# Altium schematic symbol library AG.Misc.SchLib: 3 symbols
Pins are listed as number, name and electrical type; pins without a type are passive.

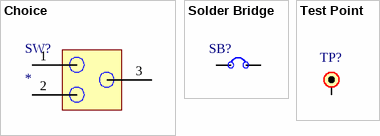
[diagram p0: symbols Choice to Test Point]

## Choice
designator SW?
footprint CHOICE_R0805
footprint CHOICE_R0805_TR
pins: 1, 2, 3

## Solder Bridge
designator SB?  (value not drawn)
Solder Bridge
footprint SLDR_BRDG_R_SM
footprint SLDR_BRDG_0603_OPEN (Solder Bridge / Resistor SMD 0603 (Open))
footprint SLDR_BRDG_0603_SHORT (Solder Bridge / Resistor SMD 0603 (Soldered))
pins: 1, 2

## Test Point
designator TP?  (value not drawn)
Test Point / Pad
footprint PAD_R_1MM (Pad Rounded 1mm)
footprint PAD_R_1.5MM (Pad Rounded 1.5mm)
footprint Pad_TH_R_1MM (Through-Hole Rounded Pad)
footprint PAD_TH_S_1MM (Through-Hole Square Pad)
pins: 1